# Altium footprint library Common-Parts-Library.PcbLib: 530 footprints (part 31 of 34)
Each footprint in its own frame and in the unit in brackets; x right, y up, seen from the top. Pads: shape width x height; smd on the part's side, far side on the other; paste and mask are expansions set on the pad; w line width, h text height; cw(c..) or ccw(c..) is an arc to the next point about the centre after c.
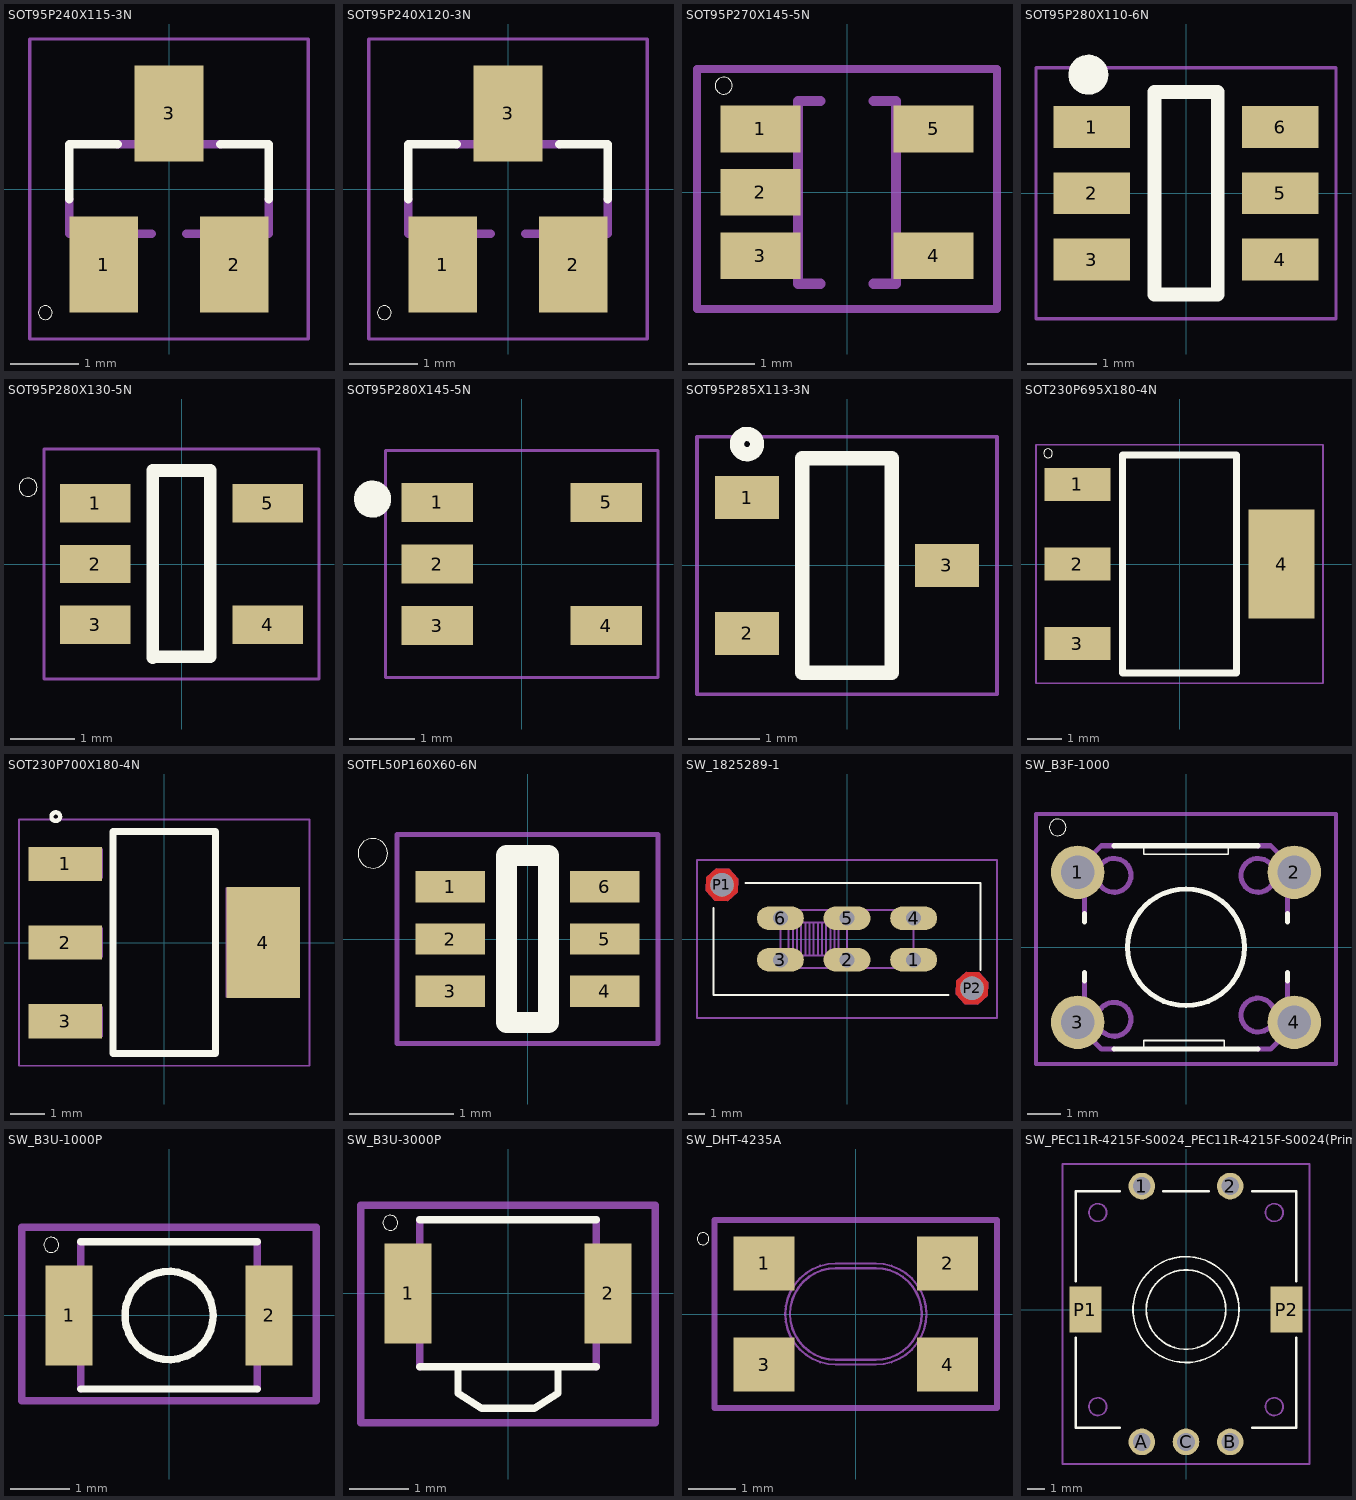
[diagram p30: the footprints below, top view; thin cyan lines are the x and y axes]

## SOT95P240X115-3N [mm]
pads (3):
  rect 1x1.4 smd: 1(-0.95,-1.1) 2(0.95,-1.1) 3(0,1.1)
Top Overlay:
  circle w0: c-1.8,-1.8 r0.1
  lines w0.127: -1.45,-0.15 -1.45,0.65 -0.75,0.65 ; 0.75,0.65 1.45,0.65 1.45,-0.15
Mechanical 1:
  region: -1.17,-0.711 -0.711,-0.711 -0.711,-1.297 -1.17,-1.297
  region: 0.712,-0.711 1.168,-0.711 1.168,-1.298 0.712,-1.298
  region: -0.229,1.295 0.229,1.295 0.229,0.712 -0.229,0.712
  lines w0.051: -2.023,-2.183 -2.023,2.183 2.023,2.183 2.023,-2.183 -2.023,-2.183
  lines w0.127: -1.45,-0.15 -1.45,-0.65 -0.25,-0.65 ; -0.75,0.65 0.75,0.65 ; 0.25,-0.65 1.45,-0.65 1.45,-0.15

## SOT95P240X120-3N [mm]
pads (3):
  rect 1x1.4 smd: 1(-0.95,-1.1) 2(0.95,-1.1) 3(0,1.1)
Top Overlay:
  circle w0: c-1.8,-1.8 r0.1
  lines w0.127: -1.45,-0.15 -1.45,0.65 -0.75,0.65 ; 0.75,0.65 1.45,0.65 1.45,-0.15
Mechanical 1:
  region: -1.17,-0.711 -0.711,-0.711 -0.711,-1.297 -1.17,-1.297
  region: 0.713,-0.711 1.168,-0.711 1.168,-1.298 0.713,-1.298
  region: -0.229,1.295 0.229,1.295 0.229,0.713 -0.229,0.713
  lines w0.051: -2.023,-2.183 -2.023,2.183 2.023,2.183 2.023,-2.183 -2.023,-2.183
  lines w0.127: -1.45,-0.15 -1.45,-0.65 -0.25,-0.65 ; -0.75,0.65 0.75,0.65 ; 0.25,-0.65 1.45,-0.65 1.45,-0.15

## SOT95P270X145-5N [mm]
pads (5):
  rect 1.2x0.7 smd: 1(-1.3,0.95) 2(-1.3,0) 3(-1.3,-0.95) 4(1.3,-0.95) 5(1.3,0.95)
Top Overlay:
  circle w0: c-1.85,1.6 r0.127
Mechanical 1:
  region: 1.425,1.2 1.425,0.702 0.777,0.702 0.777,1.2
  region: 1.426,-0.701 1.426,-1.2 0.775,-1.2 0.775,-0.701
  region: -0.775,-0.7 -0.775,-1.205 -1.43,-1.205 -1.43,-0.7
  region: -0.775,0.25 -0.775,-0.25 -1.425,-0.25 -1.425,0.25
  region: -0.776,1.201 -0.776,0.7 -1.425,0.7 -1.425,1.201
  lines w0.127: -2.25,-1.75 2.25,-1.75 2.25,1.85 -2.25,1.85 -2.25,-1.75
  lines w0.152: -0.735,-1.372 -0.735,1.372 ; -0.7,-1.372 -0.4,-1.372 ; -0.7,1.372 -0.4,1.372 ; 0.4,-1.372 0.7,-1.372 ; 0.4,1.372 0.7,1.372 ; 0.735,-1.372 0.735,1.372

## SOT95P280X110-6N [mm]
pads (6):
  rect 1.1x0.6 smd: 1(-1.35,0.95) 2(-1.35,0) 3(-1.35,-0.95) 4(1.35,-0.95) 5(1.35,0) 6(1.35,0.95)
Top Overlay:
  circle w0.127: c-1.4,1.6 r0.1
  circle w0.127: c-1.4,1.7 r0.1
  circle w0.127: c-1.4,1.7 r0.141
  circle w0.127: c-1.4,1.7 r0.224
  lines w0.2: -0.45,-1.45 0.455,-1.45 0.455,1.45 -0.45,1.45 -0.45,-1.45
Mechanical 1:
  lines w0.05: -2.15,-1.8 -2.15,1.8 2.15,1.8 2.15,-1.8 -2.15,-1.8

## SOT95P280X130-5N [mm]
pads (5):
  rect 1.1x0.6 smd: 1(-1.35,0.95) 2(-1.35,0) 3(-1.35,-0.95) 4(1.35,-0.95) 5(1.35,0.95)
Top Overlay:
  circle w0: c-2.4,1.2 r0.141
  lines w0.2: -0.45,-1.46 -0.45,1.46 0.45,1.46 ; -0.45,-1.45 0.45,-1.45 0.45,1.45
Mechanical 1:
  lines w0.05: -2.15,-1.8 -2.15,1.8 2.15,1.8 2.15,-1.8 -2.15,-1.8

## SOT95P280X145-5N [mm]
pads (5):
  rect 1.1x0.6 smd: 1(-1.3,0.95) 2(-1.3,0) 3(-1.3,-0.95) 4(1.3,-0.95) 5(1.3,0.95)
Top Overlay:
  circle w0.127: c-2.4,1 r0.1
  circle w0.127: c-2.3,1 r0.1
  circle w0.127: c-2.3,1 r0.141
  circle w0.127: c-2.3,1 r0.224
Mechanical 1:
  lines w0.05: -2.1,-1.75 -2.1,1.75 2.1,1.75 2.1,-1.75 -2.1,-1.75

## SOT95P285X113-3N [mm]
pads (3):
  rect 0.9x0.6 smd: 1(-1.4,0.95) 2(-1.4,-0.95) 3(1.4,0)
Top Overlay:
  circle w0.2: c-1.4,1.7 r0.141
  lines w0.2: -0.625,-1.5 -0.625,1.5 0.625,1.5 0.625,-1.5 -0.625,-1.5
Mechanical 1:
  lines w0.05: -2.1,-1.8 -2.1,1.8 2.1,1.8 2.1,-1.8 -2.1,-1.8

## SOT230P695X180-4N [mm]
pads (4):
  rect 1.9x0.95 smd: 1(-2.95,2.3) 2(-2.95,0) 3(-2.95,-2.3)
  rect 1.9x3.15 smd: 4(2.95,0)
Top Overlay:
  circle w0: c-3.8,3.2 r0.127
  lines w0.2: -1.65,-3.15 -1.65,3.15 1.65,3.15 1.65,-3.15 -1.65,-3.15
Mechanical 1:
  lines w0.05: -4.15,-3.45 -4.15,3.45 4.15,3.45 4.15,-3.45 -4.15,-3.45

## SOT230P700X180-4N [mm]
pads (4):
  rect 2.15x1 smd: 1(-2.9,2.3) 2(-2.9,0) 3(-2.9,-2.3)
  rect 2.15x3.25 smd: 4(2.9,0)
Top Overlay:
  circle w0.127: c-3.175,3.683 r0.127
  lines w0.203: -1.5,-3.25 -1.5,3.25 1.5,3.25 1.5,-3.25 -1.5,-3.25
Mechanical 1:
  region: -1.803,-1.88 -1.803,-2.747 -3.661,-2.747 -3.661,-1.88
  region: -1.808,2.748 -1.808,1.878 -3.659,1.878 -3.659,2.748
  region: -1.805,0.433 -1.805,-0.435 -3.661,-0.435 -3.661,0.433
  region: 3.661,1.597 3.661,-1.6 1.804,-1.6 1.804,1.597
  region: -1.803,-1.88 -1.803,-2.748 -3.663,-2.748 -3.663,-1.88
  region: -1.807,2.747 -1.807,1.878 -3.659,1.878 -3.659,2.747
  region: -1.804,0.433 -1.804,-0.434 -3.659,-0.434 -3.659,0.433
  region: 3.661,1.597 3.661,-1.6 1.804,-1.6 1.804,1.597
  lines w0.05: -4.25,-3.6 -4.25,3.6 4.25,3.6 4.25,-3.6 -4.25,-3.6

## SOTFL50P160X60-6N [mm]
pads (6):
  rect 0.67x0.3 smd: 1(-0.74,0.5) 2(-0.74,0) 3(-0.74,-0.5) 4(0.74,-0.5) 5(0.74,0) 6(0.74,0.5)
Top Overlay:
  circle w0: c-1.483,0.821 r0.141
  lines w0.2: -0.2,-0.8 -0.2,0.8 0.2,0.8 0.2,-0.8 -0.2,-0.8
Mechanical 1:
  lines w0.05: -1.25,-1 -1.25,1 1.25,1 1.25,-1 -1.25,-1

## SW_1825289-1 [mm]
pads (8):
  oval 2.816x1.408 hole 0.9: 1(4,-1.25) 2(0,-1.25) 3(-4,-1.25) 4(4,1.25) 5(0,1.25) 6(-4,1.25)
  round 1.4 hole 1.4: P1(-7.5,3.25) P2(7.5,-2.95)
Top Layer:
  region: -6.513,3.609 -7.056,4.202 -7.859,4.237 -8.452,3.694 -8.487,2.891 -7.944,2.298 -7.141,2.263 -6.548,2.806
  region: 8.487,-2.591 7.944,-1.998 7.141,-1.963 6.548,-2.506 6.513,-3.309 7.056,-3.902 7.859,-3.937 8.452,-3.394
Bottom Layer:
  region: -6.513,3.609 -7.056,4.202 -7.859,4.237 -8.452,3.694 -8.487,2.891 -7.944,2.298 -7.141,2.263 -6.548,2.806
  region: 8.487,-2.591 7.944,-1.998 7.141,-1.963 6.548,-2.506 6.513,-3.309 7.056,-3.902 7.859,-3.937 8.452,-3.394
Top Overlay:
  lines w0.127: -8,1.85 -8,-3.35 6.1,-3.35 ; -6.1,3.35 8,3.35 8,-1.85
Mechanical 1:
  lines w0.127: -3.25,-1 -3.25,1 ; -3.25,-1 -3,-1 ; -3.25,-1 -3.5,-1 -3.5,1 -3.25,1 ; -3.25,1 -3,1 ; -3,-1 -3,1 ; -3,-1 -2.75,-1 ; -3,1 -2.75,1 ; -2.75,-1 -2.75,1 ; -2.75,-1 -2.5,-1 ; -2.75,1 -2.5,1 ; -2.5,-1 -2.5,1 ; -2.5,-1 -2.25,-1 ; -2.5,1 -2.25,1 ; -2.25,-1 -2.25,1 ; -2.25,-1 -2,-1 ; -2.25,1 -2,1 ; -2,-1 -2,1 ; -2,-1 -1.75,-1 ; -2,1 -1.75,1 ; -1.75,-1 -1.75,1 ; -1.75,-1 -1.5,-1 ; -1.75,1 -1.5,1 ; -1.5,-1 -1.5,1 ; -1.5,-1 -1.25,-1 ; -1.5,1 -1.25,1 ; -1.25,-1 -1.25,1 ; -1.25,-1 -1,-1 ; -1.25,1 -1,1 ; -1,-1 -1,1 ; -1,-1 -0.75,-1 ; -1,1 -0.75,1 ; -0.75,-1 -0.75,1 ; -0.75,-1 -0.5,-1 -0.5,1 -0.75,1 ; 0,-1.75 0,1.75 ; 0,-1.75 4,-1.75 4,1.75 0,1.75 ; 0,-1.75 -4,-1.75 -4,1.75 0,1.75 ; -9,-4.75 -9,4.75 9,4.75 9,-4.75 -9,-4.75
Multi-Layer:
  region: -6.513,3.609 -7.056,4.202 -7.859,4.237 -8.452,3.694 -8.487,2.891 -7.944,2.298 -7.141,2.263 -6.548,2.806
  region: 8.487,-2.591 7.944,-1.998 7.141,-1.963 6.548,-2.506 6.513,-3.309 7.056,-3.902 7.859,-3.937 8.452,-3.394

## SW_B3F-1000 [mm]
pads (4):
  round 1.6 hole 1: 1(-3.25,2.25) 2(3.25,2.25) 3(-3.25,-2.25) 4(3.25,-2.25)
Top Overlay:
  circle w0: c-3.85,3.6 r0.25
  circle w0.152: c0,0 r1.75
  lines w0.051: -1.27,-3.048 -1.27,-2.794 1.143,-2.794 1.143,-3.048 ; -1.27,3.048 -1.27,2.794 1.27,2.794 1.27,3.048
  lines w0.152: -3.048,-1.016 -3.048,-0.762 ; -3.048,0.762 -3.048,1.016 ; -2.159,-3.048 -1.27,-3.048 1.143,-3.048 2.159,-3.048 ; -2.159,3.048 -1.27,3.048 1.27,3.048 2.159,3.048 ; 3.048,-1.016 3.048,-0.762 ; 3.048,0.762 3.048,1.016
Mechanical 1:
  circle w0.152: c-2.159,2.159 r0.508
  circle w0.152: c2.159,2.159 r0.508
  circle w0.152: c2.159,-2.032 r0.508
  circle w0.152: c-2.159,-2.159 r0.508
  lines w0.127: -4.5,-3.5 -4.5,4 4.5,4 4.5,-3.5 -4.5,-3.5
  lines w0.152: -3.048,-1.016 -3.048,-2.54 -2.54,-3.048 -2.159,-3.048 ; -3.048,1.016 -3.048,2.54 -2.54,3.048 -2.159,3.048 ; 2.159,-3.048 2.54,-3.048 3.048,-2.54 3.048,-1.016 ; 2.159,3.048 2.54,3.048 3.048,2.54 3.048,1.016

## SW_B3U-1000P [mm]
pads (2):
  rect 0.8x1.7 smd: 1(-1.7,0) 2(1.7,0)
Top Overlay:
  circle w0.127: c0,0 r0.75
  circle w0: c-2,1.2 r0.127
  lines w0.127: -1.5,-1.25 1.5,-1.25 ; -1.5,1.25 1.5,1.25
Mechanical 1:
  lines w0.127: -1.5,-1.25 -1.5,1.25 ; 1.5,-1.25 1.5,1.25 ; -2.5,-1.45 -2.5,1.5 2.5,1.5 2.5,-1.45 -2.5,-1.45

## SW_B3U-3000P [mm]
pads (2):
  rect 0.8x1.7 smd: 1(-1.7,0) 2(1.7,0)
Top Overlay:
  circle w0: c-2,1.2 r0.127
  lines w0.127: -1.5,-1.25 -0.85,-1.25 ; -1.5,1.25 1.5,1.25 ; 1.5,-1.25 0.85,-1.25 ; -0.85,-1.25 -0.85,-1.7 -0.45,-1.95 0.45,-1.95 0.85,-1.7 0.85,-1.25 ; -0.85,-1.25 0.85,-1.25
Mechanical 1:
  lines w0.127: -1.5,-1.25 -1.5,1.25 ; 1.5,-1.25 1.5,1.25 ; -2.5,-2.2 -2.5,1.5 2.5,1.5 2.5,-2.2 -2.5,-2.2

## SW_DHT-4235A [mm]
pads (4):
  rect 1.3x1.15 smd: 1(-1.95,1.075) 2(1.95,1.075) 3(-1.95,-1.075) 4(1.95,-1.075)
Top Overlay:
  circle w0: c-3.25,1.6 r0.127
Mechanical 1:
  lines w0.05: -1.5,0 ccw(c-0.425,0) -0.425,-1.075 0.425,-1.075 ccw(c0.425,0) 1.5,0 ccw(c0.425,0) 0.425,1.075 -0.425,1.075 ccw(c-0.425,0) -1.5,0 ; -1.4,0 ccw(c-0.425,0) -0.425,-0.975 0.425,-0.975 ccw(c0.425,0) 1.4,0 ccw(c0.425,0) 0.425,0.975 -0.425,0.975 ccw(c-0.425,0) -1.4,0
  lines w0.127: -3,-2 -3,2 3,2 3,-2 -3,-2

## SW_PEC11R-4215F-S0024_PEC11R-4215F-S0024(Primary) [mm]
pads (7):
  round 1.508 hole 1: 1(-2.5,7) 2(2.5,7) A(-2.5,-7.5) B(2.5,-7.5) C(0,-7.5)
  rect 1.8x2.6 smd: P1(-5.7,0) P2(5.7,0)
Top Overlay:
  circle w0.1: c0,0 r2.25
  circle w0.1: c0,0 r3
  lines w0.127: -6.25,-1.6 -6.25,-6.7 -3.75,-6.7 ; -6.25,1.6 -6.25,6.7 -3.75,6.7 ; -1.3,6.7 1.3,6.7 ; 3.75,-6.7 6.25,-6.7 6.25,-1.6 ; 3.75,6.7 6.25,6.7 6.25,1.6
Mechanical 1:
  circle w0.1: c5,-5.5 r0.5
  circle w0.1: c-5,-5.5 r0.5
  circle w0.1: c5,5.5 r0.5
  circle w0.1: c-5,5.5 r0.5
  lines w0.127: -7,-8.75 -7,8.25 7,8.25 7,-8.75 -7,-8.75